# Altium footprint library MC-5-SOT23.PcbLib: 1 footprints
Each footprint in its own frame and in the unit in brackets; x right, y up, seen from the top. Pads: shape width x height; smd on the part's side, far side on the other; paste and mask are expansions set on the pad; w line width, h text height; cw(c..) or ccw(c..) is an arc to the next point about the centre after c.
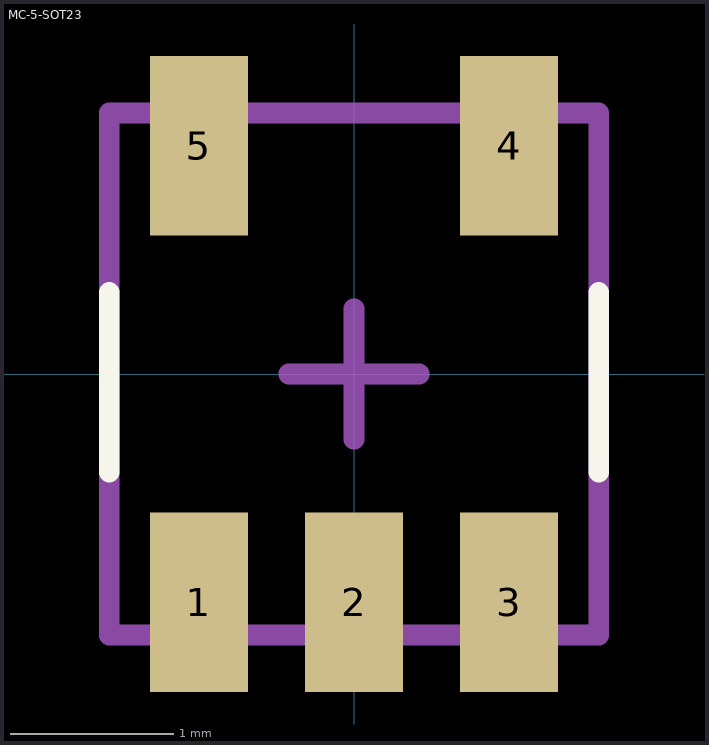
[diagram p0: the footprint, top view; thin cyan lines are the x and y axes]

## MC-5-SOT23 [mm]
height 1.45
pads (5):
  rect 0.6x1.1 smd mask+0.051: 1(-0.95,-1.4) 2(0,-1.4) 3(0.95,-1.4) 4(0.95,1.4) 5(-0.95,1.4)
Top Overlay:
  lines w0.127: -1.5,-0.6 -1.5,0.5 ; 1.5,-0.6 1.5,0.5
Mechanical 13 (Mech13):
  lines w0.127: -1.5,-1.6 1.5,-1.6 1.5,1.6 -1.5,1.6 -1.5,-1.6
Mechanical 15:
  lines w0.127: -0.4,0 0,0 ; 0,-0.4 0,0 ; 0,0.4 0,0 ; 0.4,0 0,0
3D body "SOT23_5.stp": height 0.92, standoff 0.01, extent -1.5,-1.586 1.5,1.619